# EAGLE library part LP5912 (library electronic-labs)
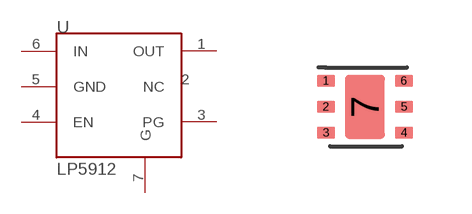
[diagram p23: symbol with the pads of LP5912; footprint LP5912]

Designator prefix U

## LP5912  [LP5912]
1  OUT  pwr
2  NC
3  PG
4  EN
5  GND  pwr
6  IN  pwr
7  G

## Footprint LP5912 (pad centres in mm)
smd 0.45 x 0.3: 1 0,0.65; 2 0,0; 3 0,-0.65; 4 1.95,-0.65; 5 1.95,0; 6 1.95,0.65
smd 1 x 1.6: 7 0.975,0